# EAGLE library part TPS61032PWP (library TPS61032PWP)
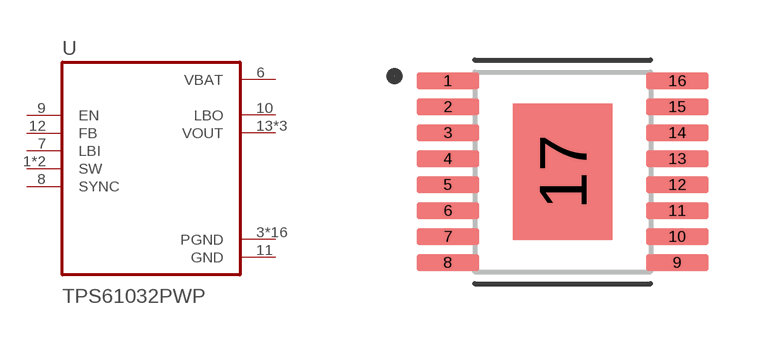
[diagram p0: symbol with the pads of SOP65P640X120-17N; footprint SOP65P640X120-17N]

Designator prefix U

## TPS61032PWP (Description: 5-V Output, 1-A, 96% Efficient Boost Converter w/20uA Iq in TSSOP-16; Digi-Key_Part_Number: 296-27007-5-ND; MF: Texas Instruments; MP: TPS61032PWP; Package: HTSSOP-16 Texas Instruments; Purchase-URL: https://pricing.snapeda.com/search/part/TPS61032PWP/?ref=eda)  [SOP65P640X120-17N]
1  SW  in
2  SW  in
3  PGND  pwr
4  PGND  pwr
5  PGND  pwr
6  VBAT  pwr
7  LBI  in
8  SYNC  in
9  EN  in
10  LBO  out
11  GND  pwr
12  FB  in
13  VOUT  out
14  VOUT  out
15  VOUT  out
17  PGND  pwr
18  PGND  pwr
19  PGND  pwr
20  PGND  pwr
21  PGND  pwr
22  PGND  pwr
23  PGND  pwr
24  PGND  pwr
25  PGND  pwr
26  PGND  pwr
27  PGND  pwr
28  PGND  pwr
29  PGND  pwr

## Footprint SOP65P640X120-17N (pad centres in mm)
smd 1.57 x 0.41: 1 -2.87,2.275; 2 -2.87,1.625; 3 -2.87,0.975; 4 -2.87,0.325; 5 -2.87,-0.325; 6 -2.87,-0.975; 7 -2.87,-1.625; 8 -2.87,-2.275; 9 2.87,-2.275; 10 2.87,-1.625; 11 2.87,-0.975; 12 2.87,-0.325; 13 2.87,0.325; 14 2.87,0.975; 15 2.87,1.625; 16 2.87,2.275
smd 2.48 x 3.4: 17 0,0